# Altium integrated library Linear Technology Power Management Power Control.IntLib: 661 symbols (part 28 of 43)
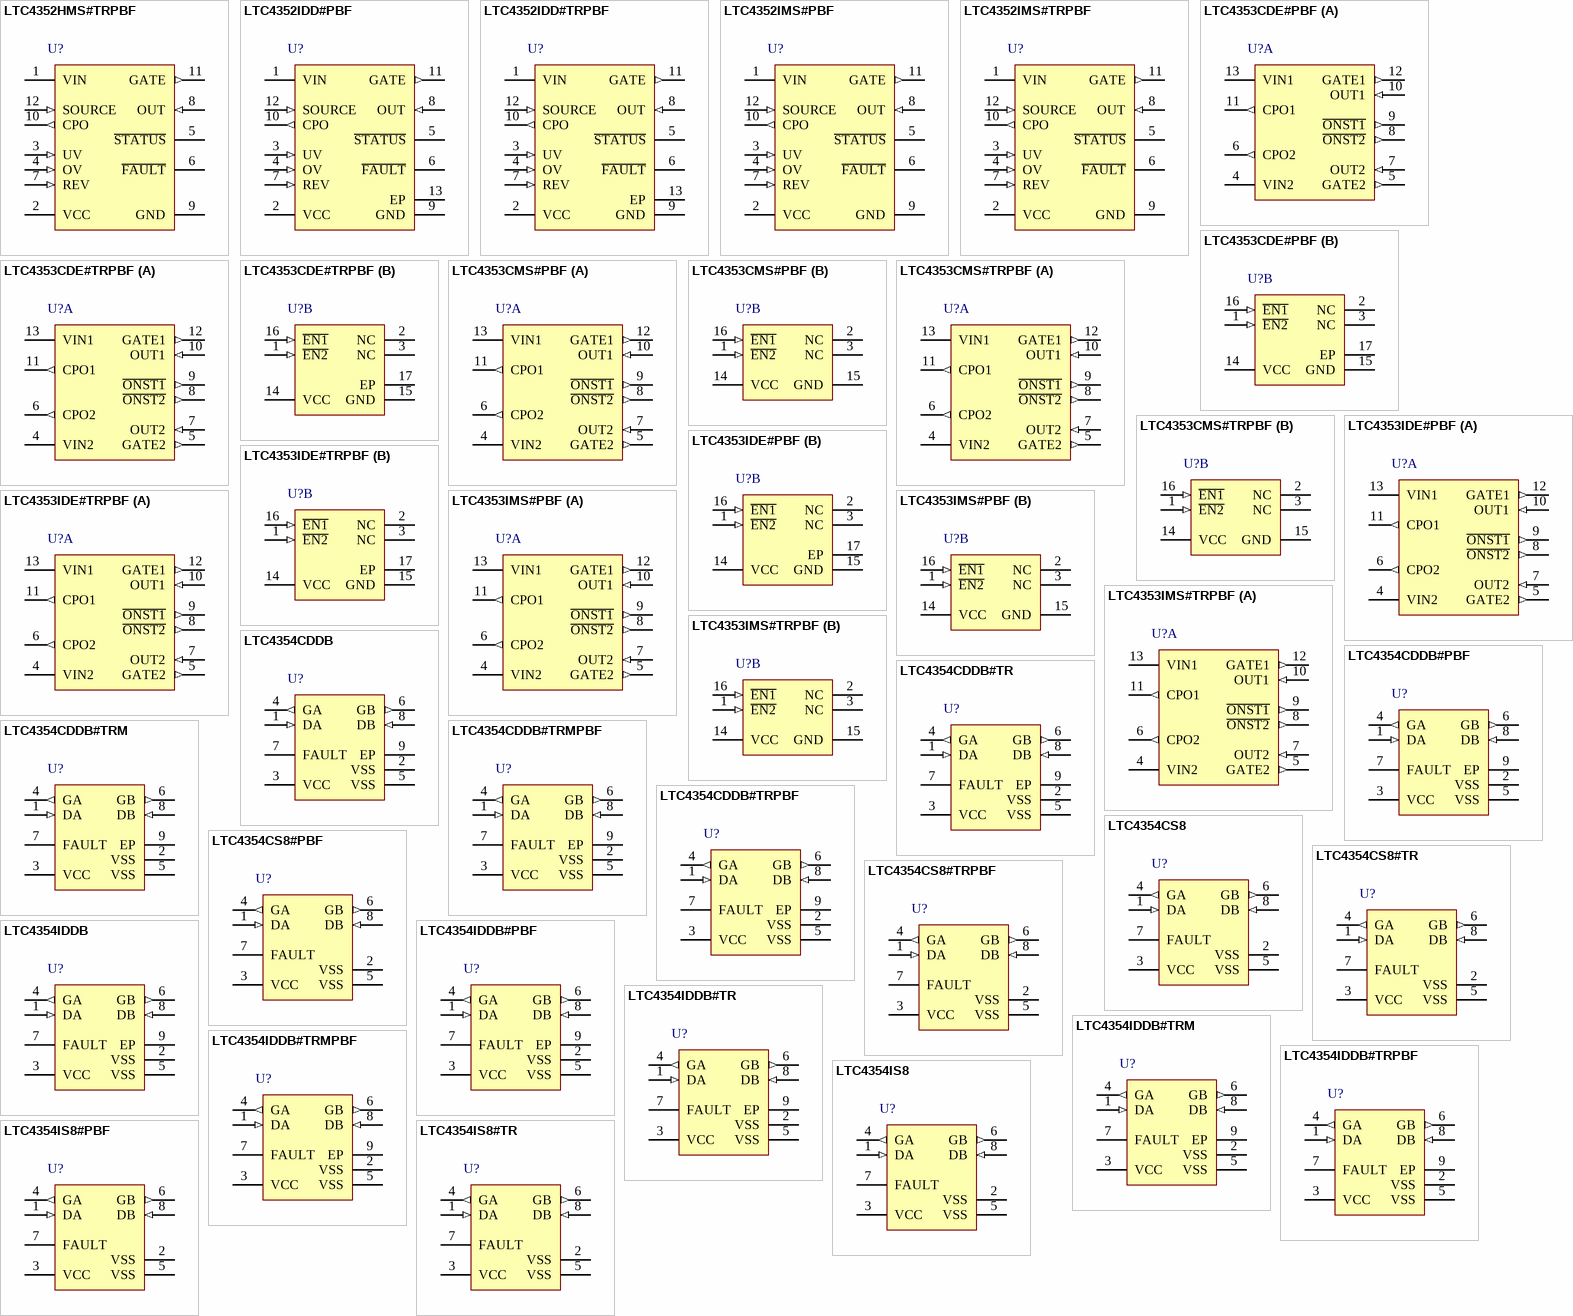
[diagram p46: symbols LTC4352HMS#TRPBF to LTC4354IS8#TR]

## LTC4352IMS#PBF
designator U?
Low Voltage Ideal Diode Controller with Monitoring, 18 V Vin MAX, 12-pin SOP (MS-12), -40 to 85 degC, Pb-Free; Manufacturer: Linear Technology; PartNumber: LTC4352IMS#PBF; Ideal Diode: Single, External, N-Channel; DatasheetVersion: Rev. A; PackageVersion: Rev. A, 05/2013; PackageReference: MS-12; PackageDescription: 12-Pin Plastic MSOP, Body 4.039 x 3 mm, Pitch 0.65 mm; Supplier 1: Digi-Key; Supplier Part Number 1: LTC4352IMS#PBF-ND; Supplier 2: Farnell; Supplier Part Number 2: 1647760; Supplier 3: Newark; Supplier Part Number 3: 02P7612; RoHS: TRUE; Mounting Technology: Surface Mount; ComponentLink1Description: Manufacturer URL; ComponentLink1URL: http://www.linear.com/; ComponentLink2Description: Datasheet; ComponentLink2URL: http://cds.linear.com/docs/en/datasheet/4352fa.pdf; ComponentLink3Description: Package Specification; ComponentLink3URL: http://cds.linear.com/docs/en/packaging/05081668_A_MS12.pdf
footprint LT-MS-12_N (SOP, 12-Leads, Body 4.1x3.1mm, Pitch 0.65mm, IPC Medium Density)
footprint LT-MS-12_L (SOP, 12-Leads, Body 4.1x3.1mm, Pitch 0.65mm, IPC High Density)
footprint LT-MS-12_M (SOP, 12-Leads, Body 4.1x3.1mm, Pitch 0.65mm, IPC Low Density)
pins: 1 VIN (power) "Voltage Sense and Supply Input. Connect this pin to the power input side of the MOSFET. The low voltage supply VCC is generated from VIN. The voltage sensed at this pin is used to control the MOSFET gate.", 2 VCC (power) "Low Voltage Supply. Connect a 0.1uF capacitor from this pin to ground. When VIN >= 2.9V, this pin provides decoupling for an internal regulator that generates a 4.1V supply. For applications where VIN < 2.9V, connect an (See Datasheet)", 3 UV (in) "Undervoltage Comparator Input. Connect this pin to an external resistive divider from VIN. If the voltage at this pin falls below 0.5V, an undervoltage fault is detected and the MOSFET is turned off. The comparator has a (See Datasheet)", 4 OV (in) "Overvoltage Comparator Input. Connect this pin to an external resistive divider from VIN. If the voltage at this pin rises above 0.5V, an overvoltage fault is detected and the MOSFET is turned off. The comparator has a (See Datasheet)", 5 ~{STATUS} (oc) "MOSFET Status Output. This pin is pulled low by an open-drain output when the external MOSFET is on. An internal 10uA current source pulls this pin up to a diode below VCC. It may be pulled above VCC using an external (See Datasheet)", 6 ~{FAULT} (oc) "Fault Output. This pin is pulled low by an open-drain output when a fault occurs. This fault could either be an undervoltage fault, an overvoltage fault, or an open MOSFET fault. The external MOSFET is turned off for (See Datasheet)", 7 REV (in) "Reverse Current Enable Input. Connect this pin to GND for normal diode operation that blocks reverse current. Driving this pin above 1V fully turns on the MOSFET gate to allow reverse current. An internal 10uA current source (See Datasheet)", 8 OUT (in) "Output Voltage Sense Input. Connect this pin to the output side of the MOSFET. The voltage sensed at this pin is used to control the MOSFET gate.", 9 GND (power) "Device Ground.", 10 CPO (out) "Charge Pump Output. Connect a capacitor from this pin to the SOURCE pin. The value of this capacitor is approximately 10x the gate capacitance (CISS) of the MOSFET switch. The charge stored on this capacitor is used to (See Datasheet)", 11 GATE (out) "MOSFET Gate Drive Output. Connect this pin to the gate of the external N-channel MOSFET switch. An internal clamp limits the gate voltage to 6.1V above, and a diode below SOURCE. During fast turn-on a 1.5A pull-up charges (See Datasheet)", 12 SOURCE (in) "MOSFET Gate Drive Return. Connect this pin to the source of the external N-channel MOSFET switch."

## LTC4352IMS#TRPBF
designator U?
Low Voltage Ideal Diode Controller with Monitoring, 18 V Vin MAX, 12-pin SOP (MS-12), -40 to 85 degC, Pb-Free, Tape and Reel; Manufacturer: Linear Technology; PartNumber: LTC4352IMS#TRPBF; Ideal Diode: Single, External, N-Channel; DatasheetVersion: Rev. A; PackageVersion: Rev. A, 05/2013; PackageReference: MS-12; PackageDescription: 12-Pin Plastic MSOP, Body 4.039 x 3 mm, Pitch 0.65 mm; Supplier 1: Digi-Key; Supplier Part Number 1: LTC4352IMS#TRPBF-ND; Supplier 2: Newark; Supplier Part Number 2: 02P7613; Packing: Tape and Reel; RoHS: TRUE; Mounting Technology: Surface Mount; ComponentLink1Description: Manufacturer URL; ComponentLink1URL: http://www.linear.com/; ComponentLink2Description: Datasheet; ComponentLink2URL: http://cds.linear.com/docs/en/datasheet/4352fa.pdf; ComponentLink3Description: Package Specification; ComponentLink3URL: http://cds.linear.com/docs/en/packaging/05081668_A_MS12.pdf
footprint LT-MS-12_N (SOP, 12-Leads, Body 4.1x3.1mm, Pitch 0.65mm, IPC Medium Density)
footprint LT-MS-12_L (SOP, 12-Leads, Body 4.1x3.1mm, Pitch 0.65mm, IPC High Density)
footprint LT-MS-12_M (SOP, 12-Leads, Body 4.1x3.1mm, Pitch 0.65mm, IPC Low Density)
pins: 1 VIN (power) "Voltage Sense and Supply Input. Connect this pin to the power input side of the MOSFET. The low voltage supply VCC is generated from VIN. The voltage sensed at this pin is used to control the MOSFET gate.", 2 VCC (power) "Low Voltage Supply. Connect a 0.1uF capacitor from this pin to ground. When VIN >= 2.9V, this pin provides decoupling for an internal regulator that generates a 4.1V supply. For applications where VIN < 2.9V, connect an (See Datasheet)", 3 UV (in) "Undervoltage Comparator Input. Connect this pin to an external resistive divider from VIN. If the voltage at this pin falls below 0.5V, an undervoltage fault is detected and the MOSFET is turned off. The comparator has a (See Datasheet)", 4 OV (in) "Overvoltage Comparator Input. Connect this pin to an external resistive divider from VIN. If the voltage at this pin rises above 0.5V, an overvoltage fault is detected and the MOSFET is turned off. The comparator has a (See Datasheet)", 5 ~{STATUS} (oc) "MOSFET Status Output. This pin is pulled low by an open-drain output when the external MOSFET is on. An internal 10uA current source pulls this pin up to a diode below VCC. It may be pulled above VCC using an external (See Datasheet)", 6 ~{FAULT} (oc) "Fault Output. This pin is pulled low by an open-drain output when a fault occurs. This fault could either be an undervoltage fault, an overvoltage fault, or an open MOSFET fault. The external MOSFET is turned off for (See Datasheet)", 7 REV (in) "Reverse Current Enable Input. Connect this pin to GND for normal diode operation that blocks reverse current. Driving this pin above 1V fully turns on the MOSFET gate to allow reverse current. An internal 10uA current source (See Datasheet)", 8 OUT (in) "Output Voltage Sense Input. Connect this pin to the output side of the MOSFET. The voltage sensed at this pin is used to control the MOSFET gate.", 9 GND (power) "Device Ground.", 10 CPO (out) "Charge Pump Output. Connect a capacitor from this pin to the SOURCE pin. The value of this capacitor is approximately 10x the gate capacitance (CISS) of the MOSFET switch. The charge stored on this capacitor is used to (See Datasheet)", 11 GATE (out) "MOSFET Gate Drive Output. Connect this pin to the gate of the external N-channel MOSFET switch. An internal clamp limits the gate voltage to 6.1V above, and a diode below SOURCE. During fast turn-on a 1.5A pull-up charges (See Datasheet)", 12 SOURCE (in) "MOSFET Gate Drive Return. Connect this pin to the source of the external N-channel MOSFET switch."

## LTC4353CDE#PBF
designator U?
Dual Low Voltage Ideal Diode Controller, 18 V Vin MAX, 16-pin SON (DE-16), 0 to 70 degC, Pb-Free; Manufacturer: Linear Technology; PartNumber: LTC4353CDE#PBF; Ideal Diode: Dual, External, N-Channel; PackageVersion: Rev. Ø, 06/2010; PackageReference: DE-16; PackageDescription: 16-Pin Plastic DFN, Body 4 x 3 mm, Pitch 0.45 mm; Supplier 1: Digi-Key; Supplier Part Number 1: LTC4353CDE#PBF-ND; Supplier 2: Farnell; Supplier Part Number 2: 2115909; Supplier 3: Newark; Supplier Part Number 3: 05W4612; RoHS: TRUE; Mounting Technology: Surface Mount; Code_JEDEC: MO-229; ComponentLink1Description: Manufacturer URL; ComponentLink1URL: http://www.linear.com/; ComponentLink2Description: Datasheet; ComponentLink2URL: http://cds.linear.com/docs/en/datasheet/4353f.pdf; ComponentLink3Description: Package Specification; ComponentLink3URL: http://cds.linear.com/docs/en/packaging/DFN_16_05-08-1732.pdf
footprint LT-DE-16_V (SON, 16-Leads, Body 4x3mm, Pitch 0.45mm, Thermal Pad 3.3x1.7mm)
part A pins: 4 VIN2 (power) "Voltage Sense and Supply Input. Connect this pin to the supply side of the MOSFET. The low voltage supply VCC is generated from the higher of VIN1 and VIN2. The voltage sensed at this pin is used to control the MOSFET gate.", 5 GATE2 (out) "MOSFET Gate Drive Output. Connect this pin to the gate of the external N-channel MOSFET switch. An internal clamp limits the gate voltage to 12V above, and a diode below the input supply. During fast turn-on, a 1.4A pull-up (See Datasheet)", 6 CPO2 (out) "Charge Pump Output. Connect a capacitor from this pin to the corresponding VIN pin. The value of this capacitor should be approximately 10x the gate capacitance (CISS) of the MOSFET switch. The charge stored on this (See Datasheet)", 7 OUT2 (in) "Output Voltage Sense Input. Connect this pin to the load side of the MOSFET. The voltage sensed at this pin is used to control the MOSFET gate.", 8 ~{ONST2} (out) "MOSFET Status Output. This pin is pulled low by an internal switch when GATE is more than 0.7V above VIN to indicate an on MOSFET. An internal 500k resistor pulls this pin up to a diode below VCC. It may be pulled above VCC (See Datasheet)", 9 ~{ONST1} (out) "MOSFET Status Output. This pin is pulled low by an internal switch when GATE is more than 0.7V above VIN to indicate an on MOSFET. An internal 500k resistor pulls this pin up to a diode below VCC. It may be pulled above VCC (See Datasheet)", 10 OUT1 (in) "Output Voltage Sense Input. Connect this pin to the load side of the MOSFET. The voltage sensed at this pin is used to control the MOSFET gate.", 11 CPO1 (out) "Charge Pump Output. Connect a capacitor from this pin to the corresponding VIN pin. The value of this capacitor should be approximately 10x the gate capacitance (CISS) of the MOSFET switch. The charge stored on this (See Datasheet)", 12 GATE1 (out) "MOSFET Gate Drive Output. Connect this pin to the gate of the external N-channel MOSFET switch. An internal clamp limits the gate voltage to 12V above, and a diode below the input supply. During fast turn-on, a 1.4A pull-up (See Datasheet)", 13 VIN1 (power) "Voltage Sense and Supply Input. Connect this pin to the supply side of the MOSFET. The low voltage supply VCC is generated from the higher of VIN1 and VIN2. The voltage sensed at this pin is used to control the MOSFET gate."
part B pins: 1 ~{EN2} (in) "Enable Input. Keep this pin below 0.6V to enable diode control on the corresponding supply. Driving this pin high shuts off the MOSFET gate (current can still flow through its body diode). The comparator has a built-in (See Datasheet)", 2 NC, 3 NC, 14 VCC (power) "Low Voltage Supply. Connect a 0.1uF capacitor from this pin to ground. For VIN >= 2.9V, this pin provides decoupling for an internal regulator that generates a 5V supply. For applications where both VIN < 2.9V, also connect (See Datasheet)", 15 GND (power) "Device Ground.", 16 ~{EN1} (in) "Enable Input. Keep this pin below 0.6V to enable diode control on the corresponding supply. Driving this pin high shuts off the MOSFET gate (current can still flow through its body diode). The comparator has a built-in (See Datasheet)", 17 EP (power) "This pin may be left open or connected to device ground."

## LTC4353CDE#TRPBF
designator U?
Dual Low Voltage Ideal Diode Controller, 18 V Vin MAX, 16-pin SON (DE-16), 0 to 70 degC, Pb-Free, Tape and Reel; Manufacturer: Linear Technology; PartNumber: LTC4353CDE#TRPBF; Ideal Diode: Dual, External, N-Channel; PackageVersion: Rev. Ø, 06/2010; PackageReference: DE-16; PackageDescription: 16-Pin Plastic DFN, Body 4 x 3 mm, Pitch 0.45 mm; Packing: Tape and Reel; RoHS: TRUE; Mounting Technology: Surface Mount; Code_JEDEC: MO-229; ComponentLink1Description: Manufacturer URL; ComponentLink1URL: http://www.linear.com/; ComponentLink2Description: Datasheet; ComponentLink2URL: http://cds.linear.com/docs/en/datasheet/4353f.pdf; ComponentLink3Description: Package Specification; ComponentLink3URL: http://cds.linear.com/docs/en/packaging/DFN_16_05-08-1732.pdf
footprint LT-DE-16_V (SON, 16-Leads, Body 4x3mm, Pitch 0.45mm, Thermal Pad 3.3x1.7mm)
part A pins: 4 VIN2 (power) "Voltage Sense and Supply Input. Connect this pin to the supply side of the MOSFET. The low voltage supply VCC is generated from the higher of VIN1 and VIN2. The voltage sensed at this pin is used to control the MOSFET gate.", 5 GATE2 (out) "MOSFET Gate Drive Output. Connect this pin to the gate of the external N-channel MOSFET switch. An internal clamp limits the gate voltage to 12V above, and a diode below the input supply. During fast turn-on, a 1.4A pull-up (See Datasheet)", 6 CPO2 (out) "Charge Pump Output. Connect a capacitor from this pin to the corresponding VIN pin. The value of this capacitor should be approximately 10x the gate capacitance (CISS) of the MOSFET switch. The charge stored on this (See Datasheet)", 7 OUT2 (in) "Output Voltage Sense Input. Connect this pin to the load side of the MOSFET. The voltage sensed at this pin is used to control the MOSFET gate.", 8 ~{ONST2} (out) "MOSFET Status Output. This pin is pulled low by an internal switch when GATE is more than 0.7V above VIN to indicate an on MOSFET. An internal 500k resistor pulls this pin up to a diode below VCC. It may be pulled above VCC (See Datasheet)", 9 ~{ONST1} (out) "MOSFET Status Output. This pin is pulled low by an internal switch when GATE is more than 0.7V above VIN to indicate an on MOSFET. An internal 500k resistor pulls this pin up to a diode below VCC. It may be pulled above VCC (See Datasheet)", 10 OUT1 (in) "Output Voltage Sense Input. Connect this pin to the load side of the MOSFET. The voltage sensed at this pin is used to control the MOSFET gate.", 11 CPO1 (out) "Charge Pump Output. Connect a capacitor from this pin to the corresponding VIN pin. The value of this capacitor should be approximately 10x the gate capacitance (CISS) of the MOSFET switch. The charge stored on this (See Datasheet)", 12 GATE1 (out) "MOSFET Gate Drive Output. Connect this pin to the gate of the external N-channel MOSFET switch. An internal clamp limits the gate voltage to 12V above, and a diode below the input supply. During fast turn-on, a 1.4A pull-up (See Datasheet)", 13 VIN1 (power) "Voltage Sense and Supply Input. Connect this pin to the supply side of the MOSFET. The low voltage supply VCC is generated from the higher of VIN1 and VIN2. The voltage sensed at this pin is used to control the MOSFET gate."
part B pins: 1 ~{EN2} (in) "Enable Input. Keep this pin below 0.6V to enable diode control on the corresponding supply. Driving this pin high shuts off the MOSFET gate (current can still flow through its body diode). The comparator has a built-in (See Datasheet)", 2 NC, 3 NC, 14 VCC (power) "Low Voltage Supply. Connect a 0.1uF capacitor from this pin to ground. For VIN >= 2.9V, this pin provides decoupling for an internal regulator that generates a 5V supply. For applications where both VIN < 2.9V, also connect (See Datasheet)", 15 GND (power) "Device Ground.", 16 ~{EN1} (in) "Enable Input. Keep this pin below 0.6V to enable diode control on the corresponding supply. Driving this pin high shuts off the MOSFET gate (current can still flow through its body diode). The comparator has a built-in (See Datasheet)", 17 EP (power) "This pin may be left open or connected to device ground."

## LTC4353CMS#PBF
designator U?
Dual Low Voltage Ideal Diode Controller, 18 V Vin MAX, 16-pin SOP (MS-16), 0 to 70 degC, Pb-Free; Manufacturer: Linear Technology; PartNumber: LTC4353CMS#PBF; Ideal Diode: Dual, External, N-Channel; PackageVersion: Rev. Ø, 06/2010; PackageReference: MS16; PackageDescription: 16-Pin Plastic MSOP, Body 4.04 x 3.00 mm, Pitch 0.50 mm; Supplier 1: Digi-Key; Supplier Part Number 1: LTC4353CMS#PBF-ND; Supplier 2: Farnell; Supplier Part Number 2: 2115910; Supplier 3: Newark; Supplier Part Number 3: 05W4614; RoHS: TRUE; Mounting Technology: Surface Mount; ComponentLink1Description: Manufacturer URL; ComponentLink1URL: http://www.linear.com/; ComponentLink2Description: Datasheet; ComponentLink2URL: http://cds.linear.com/docs/en/datasheet/4353f.pdf; ComponentLink3Description: Package Specification; ComponentLink3URL: http://cds.linear.com/docs/en/packaging/05081669_A_MS16.pdf
footprint LT-MS-16_N (SOP, 16-Leads, Body 4.1x3.1mm, Pitch 0.5mm, IPC Medium Density)
footprint LT-MS-16_L (SOP, 16-Leads, Body 4.1x3.1mm, Pitch 0.5mm, IPC High Density)
footprint LT-MS-16_M (SOP, 16-Leads, Body 4.1x3.1mm, Pitch 0.5mm, IPC Low Density)
part A pins: 4 VIN2 (power) "Voltage Sense and Supply Input. Connect this pin to the supply side of the MOSFET. The low voltage supply VCC is generated from the higher of VIN1 and VIN2. The voltage sensed at this pin is used to control the MOSFET gate.", 5 GATE2 (out) "MOSFET Gate Drive Output. Connect this pin to the gate of the external N-channel MOSFET switch. An internal clamp limits the gate voltage to 12V above, and a diode below the input supply. During fast turn-on, a 1.4A pull-up (See Datasheet)", 6 CPO2 (out) "Charge Pump Output. Connect a capacitor from this pin to the corresponding VIN pin. The value of this capacitor should be approximately 10x the gate capacitance (CISS) of the MOSFET switch. The charge stored on this (See Datasheet)", 7 OUT2 (in) "Output Voltage Sense Input. Connect this pin to the load side of the MOSFET. The voltage sensed at this pin is used to control the MOSFET gate.", 8 ~{ONST2} (out) "MOSFET Status Output. This pin is pulled low by an internal switch when GATE is more than 0.7V above VIN to indicate an on MOSFET. An internal 500k resistor pulls this pin up to a diode below VCC. It may be pulled above VCC (See Datasheet)", 9 ~{ONST1} (out) "MOSFET Status Output. This pin is pulled low by an internal switch when GATE is more than 0.7V above VIN to indicate an on MOSFET. An internal 500k resistor pulls this pin up to a diode below VCC. It may be pulled above VCC (See Datasheet)", 10 OUT1 (in) "Output Voltage Sense Input. Connect this pin to the load side of the MOSFET. The voltage sensed at this pin is used to control the MOSFET gate.", 11 CPO1 (out) "Charge Pump Output. Connect a capacitor from this pin to the corresponding VIN pin. The value of this capacitor should be approximately 10x the gate capacitance (CISS) of the MOSFET switch. The charge stored on this (See Datasheet)", 12 GATE1 (out) "MOSFET Gate Drive Output. Connect this pin to the gate of the external N-channel MOSFET switch. An internal clamp limits the gate voltage to 12V above, and a diode below the input supply. During fast turn-on, a 1.4A pull-up (See Datasheet)", 13 VIN1 (power) "Voltage Sense and Supply Input. Connect this pin to the supply side of the MOSFET. The low voltage supply VCC is generated from the higher of VIN1 and VIN2. The voltage sensed at this pin is used to control the MOSFET gate."
part B pins: 1 ~{EN2} (in) "Enable Input. Keep this pin below 0.6V to enable diode control on the corresponding supply. Driving this pin high shuts off the MOSFET gate (current can still flow through its body diode). The comparator has a built-in (See Datasheet)", 2 NC, 3 NC, 14 VCC (power) "Low Voltage Supply. Connect a 0.1uF capacitor from this pin to ground. For VIN >= 2.9V, this pin provides decoupling for an internal regulator that generates a 5V supply. For applications where both VIN < 2.9V, also connect (See Datasheet)", 15 GND (power) "Device Ground.", 16 ~{EN1} (in) "Enable Input. Keep this pin below 0.6V to enable diode control on the corresponding supply. Driving this pin high shuts off the MOSFET gate (current can still flow through its body diode). The comparator has a built-in (See Datasheet)"

## LTC4353CMS#TRPBF
designator U?
Dual Low Voltage Ideal Diode Controller, 18 V Vin MAX, 16-pin SOP (MS-16), 0 to 70 degC, Pb-Free, Tape and Reel; Manufacturer: Linear Technology; PartNumber: LTC4353CMS#TRPBF; Ideal Diode: Dual, External, N-Channel; PackageVersion: Rev. Ø, 06/2010; PackageReference: MS16; PackageDescription: 16-Pin Plastic MSOP, Body 4.04 x 3.00 mm, Pitch 0.50 mm; Packing: Tape and Reel; RoHS: TRUE; Mounting Technology: Surface Mount; ComponentLink1Description: Manufacturer URL; ComponentLink1URL: http://www.linear.com/; ComponentLink2Description: Datasheet; ComponentLink2URL: http://cds.linear.com/docs/en/datasheet/4353f.pdf; ComponentLink3Description: Package Specification; ComponentLink3URL: http://cds.linear.com/docs/en/packaging/05081669_A_MS16.pdf
footprint LT-MS-16_N (SOP, 16-Leads, Body 4.1x3.1mm, Pitch 0.5mm, IPC Medium Density)
footprint LT-MS-16_L (SOP, 16-Leads, Body 4.1x3.1mm, Pitch 0.5mm, IPC High Density)
footprint LT-MS-16_M (SOP, 16-Leads, Body 4.1x3.1mm, Pitch 0.5mm, IPC Low Density)
part A pins: 4 VIN2 (power) "Voltage Sense and Supply Input. Connect this pin to the supply side of the MOSFET. The low voltage supply VCC is generated from the higher of VIN1 and VIN2. The voltage sensed at this pin is used to control the MOSFET gate.", 5 GATE2 (out) "MOSFET Gate Drive Output. Connect this pin to the gate of the external N-channel MOSFET switch. An internal clamp limits the gate voltage to 12V above, and a diode below the input supply. During fast turn-on, a 1.4A pull-up (See Datasheet)", 6 CPO2 (out) "Charge Pump Output. Connect a capacitor from this pin to the corresponding VIN pin. The value of this capacitor should be approximately 10x the gate capacitance (CISS) of the MOSFET switch. The charge stored on this (See Datasheet)", 7 OUT2 (in) "Output Voltage Sense Input. Connect this pin to the load side of the MOSFET. The voltage sensed at this pin is used to control the MOSFET gate.", 8 ~{ONST2} (out) "MOSFET Status Output. This pin is pulled low by an internal switch when GATE is more than 0.7V above VIN to indicate an on MOSFET. An internal 500k resistor pulls this pin up to a diode below VCC. It may be pulled above VCC (See Datasheet)", 9 ~{ONST1} (out) "MOSFET Status Output. This pin is pulled low by an internal switch when GATE is more than 0.7V above VIN to indicate an on MOSFET. An internal 500k resistor pulls this pin up to a diode below VCC. It may be pulled above VCC (See Datasheet)", 10 OUT1 (in) "Output Voltage Sense Input. Connect this pin to the load side of the MOSFET. The voltage sensed at this pin is used to control the MOSFET gate.", 11 CPO1 (out) "Charge Pump Output. Connect a capacitor from this pin to the corresponding VIN pin. The value of this capacitor should be approximately 10x the gate capacitance (CISS) of the MOSFET switch. The charge stored on this (See Datasheet)", 12 GATE1 (out) "MOSFET Gate Drive Output. Connect this pin to the gate of the external N-channel MOSFET switch. An internal clamp limits the gate voltage to 12V above, and a diode below the input supply. During fast turn-on, a 1.4A pull-up (See Datasheet)", 13 VIN1 (power) "Voltage Sense and Supply Input. Connect this pin to the supply side of the MOSFET. The low voltage supply VCC is generated from the higher of VIN1 and VIN2. The voltage sensed at this pin is used to control the MOSFET gate."
part B pins: 1 ~{EN2} (in) "Enable Input. Keep this pin below 0.6V to enable diode control on the corresponding supply. Driving this pin high shuts off the MOSFET gate (current can still flow through its body diode). The comparator has a built-in (See Datasheet)", 2 NC, 3 NC, 14 VCC (power) "Low Voltage Supply. Connect a 0.1uF capacitor from this pin to ground. For VIN >= 2.9V, this pin provides decoupling for an internal regulator that generates a 5V supply. For applications where both VIN < 2.9V, also connect (See Datasheet)", 15 GND (power) "Device Ground.", 16 ~{EN1} (in) "Enable Input. Keep this pin below 0.6V to enable diode control on the corresponding supply. Driving this pin high shuts off the MOSFET gate (current can still flow through its body diode). The comparator has a built-in (See Datasheet)"

## LTC4353IDE#PBF
designator U?
Dual Low Voltage Ideal Diode Controller, 18 V Vin MAX, 16-pin SON (DE-16), -40 to 85 degC, Pb-Free; Manufacturer: Linear Technology; PartNumber: LTC4353IDE#PBF; Ideal Diode: Dual, External, N-Channel; PackageVersion: Rev. Ø, 06/2010; PackageReference: DE-16; PackageDescription: 16-Pin Plastic DFN, Body 4 x 3 mm, Pitch 0.45 mm; Supplier 1: Digi-Key; Supplier Part Number 1: LTC4353IDE#PBF-ND; Supplier 2: Newark; Supplier Part Number 2: 05W4616; RoHS: TRUE; Mounting Technology: Surface Mount; Code_JEDEC: MO-229; ComponentLink1Description: Manufacturer URL; ComponentLink1URL: http://www.linear.com/; ComponentLink2Description: Datasheet; ComponentLink2URL: http://cds.linear.com/docs/en/datasheet/4353f.pdf; ComponentLink3Description: Package Specification; ComponentLink3URL: http://cds.linear.com/docs/en/packaging/DFN_16_05-08-1732.pdf
footprint LT-DE-16_V (SON, 16-Leads, Body 4x3mm, Pitch 0.45mm, Thermal Pad 3.3x1.7mm)
part A pins: 4 VIN2 (power) "Voltage Sense and Supply Input. Connect this pin to the supply side of the MOSFET. The low voltage supply VCC is generated from the higher of VIN1 and VIN2. The voltage sensed at this pin is used to control the MOSFET gate.", 5 GATE2 (out) "MOSFET Gate Drive Output. Connect this pin to the gate of the external N-channel MOSFET switch. An internal clamp limits the gate voltage to 12V above, and a diode below the input supply. During fast turn-on, a 1.4A pull-up (See Datasheet)", 6 CPO2 (out) "Charge Pump Output. Connect a capacitor from this pin to the corresponding VIN pin. The value of this capacitor should be approximately 10x the gate capacitance (CISS) of the MOSFET switch. The charge stored on this (See Datasheet)", 7 OUT2 (in) "Output Voltage Sense Input. Connect this pin to the load side of the MOSFET. The voltage sensed at this pin is used to control the MOSFET gate.", 8 ~{ONST2} (out) "MOSFET Status Output. This pin is pulled low by an internal switch when GATE is more than 0.7V above VIN to indicate an on MOSFET. An internal 500k resistor pulls this pin up to a diode below VCC. It may be pulled above VCC (See Datasheet)", 9 ~{ONST1} (out) "MOSFET Status Output. This pin is pulled low by an internal switch when GATE is more than 0.7V above VIN to indicate an on MOSFET. An internal 500k resistor pulls this pin up to a diode below VCC. It may be pulled above VCC (See Datasheet)", 10 OUT1 (in) "Output Voltage Sense Input. Connect this pin to the load side of the MOSFET. The voltage sensed at this pin is used to control the MOSFET gate.", 11 CPO1 (out) "Charge Pump Output. Connect a capacitor from this pin to the corresponding VIN pin. The value of this capacitor should be approximately 10x the gate capacitance (CISS) of the MOSFET switch. The charge stored on this (See Datasheet)", 12 GATE1 (out) "MOSFET Gate Drive Output. Connect this pin to the gate of the external N-channel MOSFET switch. An internal clamp limits the gate voltage to 12V above, and a diode below the input supply. During fast turn-on, a 1.4A pull-up (See Datasheet)", 13 VIN1 (power) "Voltage Sense and Supply Input. Connect this pin to the supply side of the MOSFET. The low voltage supply VCC is generated from the higher of VIN1 and VIN2. The voltage sensed at this pin is used to control the MOSFET gate."
part B pins: 1 ~{EN2} (in) "Enable Input. Keep this pin below 0.6V to enable diode control on the corresponding supply. Driving this pin high shuts off the MOSFET gate (current can still flow through its body diode). The comparator has a built-in (See Datasheet)", 2 NC, 3 NC, 14 VCC (power) "Low Voltage Supply. Connect a 0.1uF capacitor from this pin to ground. For VIN >= 2.9V, this pin provides decoupling for an internal regulator that generates a 5V supply. For applications where both VIN < 2.9V, also connect (See Datasheet)", 15 GND (power) "Device Ground.", 16 ~{EN1} (in) "Enable Input. Keep this pin below 0.6V to enable diode control on the corresponding supply. Driving this pin high shuts off the MOSFET gate (current can still flow through its body diode). The comparator has a built-in (See Datasheet)", 17 EP (power) "This pin may be left open or connected to device ground."

## LTC4353IDE#TRPBF
designator U?
Dual Low Voltage Ideal Diode Controller, 18 V Vin MAX, 16-pin SON (DE-16), -40 to 85 degC, Pb-Free, Tape and Reel; Manufacturer: Linear Technology; PartNumber: LTC4353IDE#TRPBF; Ideal Diode: Dual, External, N-Channel; PackageVersion: Rev. Ø, 06/2010; PackageReference: DE-16; PackageDescription: 16-Pin Plastic DFN, Body 4 x 3 mm, Pitch 0.45 mm; Packing: Tape and Reel; RoHS: TRUE; Mounting Technology: Surface Mount; Code_JEDEC: MO-229; ComponentLink1Description: Manufacturer URL; ComponentLink1URL: http://www.linear.com/; ComponentLink2Description: Datasheet; ComponentLink2URL: http://cds.linear.com/docs/en/datasheet/4353f.pdf; ComponentLink3Description: Package Specification; ComponentLink3URL: http://cds.linear.com/docs/en/packaging/DFN_16_05-08-1732.pdf
footprint LT-DE-16_V (SON, 16-Leads, Body 4x3mm, Pitch 0.45mm, Thermal Pad 3.3x1.7mm)
part A pins: 4 VIN2 (power) "Voltage Sense and Supply Input. Connect this pin to the supply side of the MOSFET. The low voltage supply VCC is generated from the higher of VIN1 and VIN2. The voltage sensed at this pin is used to control the MOSFET gate.", 5 GATE2 (out) "MOSFET Gate Drive Output. Connect this pin to the gate of the external N-channel MOSFET switch. An internal clamp limits the gate voltage to 12V above, and a diode below the input supply. During fast turn-on, a 1.4A pull-up (See Datasheet)", 6 CPO2 (out) "Charge Pump Output. Connect a capacitor from this pin to the corresponding VIN pin. The value of this capacitor should be approximately 10x the gate capacitance (CISS) of the MOSFET switch. The charge stored on this (See Datasheet)", 7 OUT2 (in) "Output Voltage Sense Input. Connect this pin to the load side of the MOSFET. The voltage sensed at this pin is used to control the MOSFET gate.", 8 ~{ONST2} (out) "MOSFET Status Output. This pin is pulled low by an internal switch when GATE is more than 0.7V above VIN to indicate an on MOSFET. An internal 500k resistor pulls this pin up to a diode below VCC. It may be pulled above VCC (See Datasheet)", 9 ~{ONST1} (out) "MOSFET Status Output. This pin is pulled low by an internal switch when GATE is more than 0.7V above VIN to indicate an on MOSFET. An internal 500k resistor pulls this pin up to a diode below VCC. It may be pulled above VCC (See Datasheet)", 10 OUT1 (in) "Output Voltage Sense Input. Connect this pin to the load side of the MOSFET. The voltage sensed at this pin is used to control the MOSFET gate.", 11 CPO1 (out) "Charge Pump Output. Connect a capacitor from this pin to the corresponding VIN pin. The value of this capacitor should be approximately 10x the gate capacitance (CISS) of the MOSFET switch. The charge stored on this (See Datasheet)", 12 GATE1 (out) "MOSFET Gate Drive Output. Connect this pin to the gate of the external N-channel MOSFET switch. An internal clamp limits the gate voltage to 12V above, and a diode below the input supply. During fast turn-on, a 1.4A pull-up (See Datasheet)", 13 VIN1 (power) "Voltage Sense and Supply Input. Connect this pin to the supply side of the MOSFET. The low voltage supply VCC is generated from the higher of VIN1 and VIN2. The voltage sensed at this pin is used to control the MOSFET gate."
part B pins: 1 ~{EN2} (in) "Enable Input. Keep this pin below 0.6V to enable diode control on the corresponding supply. Driving this pin high shuts off the MOSFET gate (current can still flow through its body diode). The comparator has a built-in (See Datasheet)", 2 NC, 3 NC, 14 VCC (power) "Low Voltage Supply. Connect a 0.1uF capacitor from this pin to ground. For VIN >= 2.9V, this pin provides decoupling for an internal regulator that generates a 5V supply. For applications where both VIN < 2.9V, also connect (See Datasheet)", 15 GND (power) "Device Ground.", 16 ~{EN1} (in) "Enable Input. Keep this pin below 0.6V to enable diode control on the corresponding supply. Driving this pin high shuts off the MOSFET gate (current can still flow through its body diode). The comparator has a built-in (See Datasheet)", 17 EP (power) "This pin may be left open or connected to device ground."

## LTC4353IMS#PBF
designator U?
Dual Low Voltage Ideal Diode Controller, 18 V Vin MAX, 16-pin SOP (MS-16), -40 to 85 degC, Pb-Free; Manufacturer: Linear Technology; PartNumber: LTC4353IMS#PBF; Ideal Diode: Dual, External, N-Channel; PackageVersion: Rev. Ø, 06/2010; PackageReference: MS16; PackageDescription: 16-Pin Plastic MSOP, Body 4.04 x 3.00 mm, Pitch 0.50 mm; Supplier 1: Digi-Key; Supplier Part Number 1: LTC4353IMS#PBF-ND; Supplier 2: Newark; Supplier Part Number 2: 05W4618; RoHS: TRUE; Mounting Technology: Surface Mount; ComponentLink1Description: Manufacturer URL; ComponentLink1URL: http://www.linear.com/; ComponentLink2Description: Datasheet; ComponentLink2URL: http://cds.linear.com/docs/en/datasheet/4353f.pdf; ComponentLink3Description: Package Specification; ComponentLink3URL: http://cds.linear.com/docs/en/packaging/05081669_A_MS16.pdf
footprint LT-MS-16_N (SOP, 16-Leads, Body 4.1x3.1mm, Pitch 0.5mm, IPC Medium Density)
footprint LT-MS-16_L (SOP, 16-Leads, Body 4.1x3.1mm, Pitch 0.5mm, IPC High Density)
footprint LT-MS-16_M (SOP, 16-Leads, Body 4.1x3.1mm, Pitch 0.5mm, IPC Low Density)
part A pins: 4 VIN2 (power) "Voltage Sense and Supply Input. Connect this pin to the supply side of the MOSFET. The low voltage supply VCC is generated from the higher of VIN1 and VIN2. The voltage sensed at this pin is used to control the MOSFET gate.", 5 GATE2 (out) "MOSFET Gate Drive Output. Connect this pin to the gate of the external N-channel MOSFET switch. An internal clamp limits the gate voltage to 12V above, and a diode below the input supply. During fast turn-on, a 1.4A pull-up (See Datasheet)", 6 CPO2 (out) "Charge Pump Output. Connect a capacitor from this pin to the corresponding VIN pin. The value of this capacitor should be approximately 10x the gate capacitance (CISS) of the MOSFET switch. The charge stored on this (See Datasheet)", 7 OUT2 (in) "Output Voltage Sense Input. Connect this pin to the load side of the MOSFET. The voltage sensed at this pin is used to control the MOSFET gate.", 8 ~{ONST2} (out) "MOSFET Status Output. This pin is pulled low by an internal switch when GATE is more than 0.7V above VIN to indicate an on MOSFET. An internal 500k resistor pulls this pin up to a diode below VCC. It may be pulled above VCC (See Datasheet)", 9 ~{ONST1} (out) "MOSFET Status Output. This pin is pulled low by an internal switch when GATE is more than 0.7V above VIN to indicate an on MOSFET. An internal 500k resistor pulls this pin up to a diode below VCC. It may be pulled above VCC (See Datasheet)", 10 OUT1 (in) "Output Voltage Sense Input. Connect this pin to the load side of the MOSFET. The voltage sensed at this pin is used to control the MOSFET gate.", 11 CPO1 (out) "Charge Pump Output. Connect a capacitor from this pin to the corresponding VIN pin. The value of this capacitor should be approximately 10x the gate capacitance (CISS) of the MOSFET switch. The charge stored on this (See Datasheet)", 12 GATE1 (out) "MOSFET Gate Drive Output. Connect this pin to the gate of the external N-channel MOSFET switch. An internal clamp limits the gate voltage to 12V above, and a diode below the input supply. During fast turn-on, a 1.4A pull-up (See Datasheet)", 13 VIN1 (power) "Voltage Sense and Supply Input. Connect this pin to the supply side of the MOSFET. The low voltage supply VCC is generated from the higher of VIN1 and VIN2. The voltage sensed at this pin is used to control the MOSFET gate."
part B pins: 1 ~{EN2} (in) "Enable Input. Keep this pin below 0.6V to enable diode control on the corresponding supply. Driving this pin high shuts off the MOSFET gate (current can still flow through its body diode). The comparator has a built-in (See Datasheet)", 2 NC, 3 NC, 14 VCC (power) "Low Voltage Supply. Connect a 0.1uF capacitor from this pin to ground. For VIN >= 2.9V, this pin provides decoupling for an internal regulator that generates a 5V supply. For applications where both VIN < 2.9V, also connect (See Datasheet)", 15 GND (power) "Device Ground.", 16 ~{EN1} (in) "Enable Input. Keep this pin below 0.6V to enable diode control on the corresponding supply. Driving this pin high shuts off the MOSFET gate (current can still flow through its body diode). The comparator has a built-in (See Datasheet)"

## LTC4353IMS#TRPBF
designator U?
Dual Low Voltage Ideal Diode Controller, 18 V Vin MAX, 16-pin SOP (MS-16), -40 to 85 degC, Pb-Free, Tape and Reel; Manufacturer: Linear Technology; PartNumber: LTC4353IMS#TRPBF; Ideal Diode: Dual, External, N-Channel; PackageVersion: Rev. Ø, 06/2010; PackageReference: MS16; PackageDescription: 16-Pin Plastic MSOP, Body 4.04 x 3.00 mm, Pitch 0.50 mm; Supplier 1: Newark; Supplier Part Number 1: 05W4619; Packing: Tape and Reel; RoHS: TRUE; Mounting Technology: Surface Mount; ComponentLink1Description: Manufacturer URL; ComponentLink1URL: http://www.linear.com/; ComponentLink2Description: Datasheet; ComponentLink2URL: http://cds.linear.com/docs/en/datasheet/4353f.pdf; ComponentLink3Description: Package Specification; ComponentLink3URL: http://cds.linear.com/docs/en/packaging/05081669_A_MS16.pdf
footprint LT-MS-16_N (SOP, 16-Leads, Body 4.1x3.1mm, Pitch 0.5mm, IPC Medium Density)
footprint LT-MS-16_L (SOP, 16-Leads, Body 4.1x3.1mm, Pitch 0.5mm, IPC High Density)
footprint LT-MS-16_M (SOP, 16-Leads, Body 4.1x3.1mm, Pitch 0.5mm, IPC Low Density)
part A pins: 4 VIN2 (power) "Voltage Sense and Supply Input. Connect this pin to the supply side of the MOSFET. The low voltage supply VCC is generated from the higher of VIN1 and VIN2. The voltage sensed at this pin is used to control the MOSFET gate.", 5 GATE2 (out) "MOSFET Gate Drive Output. Connect this pin to the gate of the external N-channel MOSFET switch. An internal clamp limits the gate voltage to 12V above, and a diode below the input supply. During fast turn-on, a 1.4A pull-up (See Datasheet)", 6 CPO2 (out) "Charge Pump Output. Connect a capacitor from this pin to the corresponding VIN pin. The value of this capacitor should be approximately 10x the gate capacitance (CISS) of the MOSFET switch. The charge stored on this (See Datasheet)", 7 OUT2 (in) "Output Voltage Sense Input. Connect this pin to the load side of the MOSFET. The voltage sensed at this pin is used to control the MOSFET gate.", 8 ~{ONST2} (out) "MOSFET Status Output. This pin is pulled low by an internal switch when GATE is more than 0.7V above VIN to indicate an on MOSFET. An internal 500k resistor pulls this pin up to a diode below VCC. It may be pulled above VCC (See Datasheet)", 9 ~{ONST1} (out) "MOSFET Status Output. This pin is pulled low by an internal switch when GATE is more than 0.7V above VIN to indicate an on MOSFET. An internal 500k resistor pulls this pin up to a diode below VCC. It may be pulled above VCC (See Datasheet)", 10 OUT1 (in) "Output Voltage Sense Input. Connect this pin to the load side of the MOSFET. The voltage sensed at this pin is used to control the MOSFET gate.", 11 CPO1 (out) "Charge Pump Output. Connect a capacitor from this pin to the corresponding VIN pin. The value of this capacitor should be approximately 10x the gate capacitance (CISS) of the MOSFET switch. The charge stored on this (See Datasheet)", 12 GATE1 (out) "MOSFET Gate Drive Output. Connect this pin to the gate of the external N-channel MOSFET switch. An internal clamp limits the gate voltage to 12V above, and a diode below the input supply. During fast turn-on, a 1.4A pull-up (See Datasheet)", 13 VIN1 (power) "Voltage Sense and Supply Input. Connect this pin to the supply side of the MOSFET. The low voltage supply VCC is generated from the higher of VIN1 and VIN2. The voltage sensed at this pin is used to control the MOSFET gate."
part B pins: 1 ~{EN2} (in) "Enable Input. Keep this pin below 0.6V to enable diode control on the corresponding supply. Driving this pin high shuts off the MOSFET gate (current can still flow through its body diode). The comparator has a built-in (See Datasheet)", 2 NC, 3 NC, 14 VCC (power) "Low Voltage Supply. Connect a 0.1uF capacitor from this pin to ground. For VIN >= 2.9V, this pin provides decoupling for an internal regulator that generates a 5V supply. For applications where both VIN < 2.9V, also connect (See Datasheet)", 15 GND (power) "Device Ground.", 16 ~{EN1} (in) "Enable Input. Keep this pin below 0.6V to enable diode control on the corresponding supply. Driving this pin high shuts off the MOSFET gate (current can still flow through its body diode). The comparator has a built-in (See Datasheet)"

## LTC4354CDDB
designator U?
Dual Channel, 1 us Turn-off Time, -12 to -80 V Vin, 8-pin SON (DDB-8), 0 to 70 degC; Manufacturer: Linear Technology; PartNumber: LTC4354CDDB; Ideal Diode: Dual, External, N-Channel; DatasheetVersion: Rev. C; PackageVersion: Rev. B, 06/2010; PackageReference: DDB-8; PackageDescription: 8-Pin Plastic DFN, Body 3 x 2 mm, Pitch 0.5 mm; RoHS: FALSE; Mounting Technology: Surface Mount; Code_JEDEC: MO-229; ComponentLink1Description: Manufacturer URL; ComponentLink1URL: http://www.linear.com/; ComponentLink2Description: Datasheet; ComponentLink2URL: http://cds.linear.com/docs/en/datasheet/4354fc.pdf; ComponentLink3Description: Package Specification; ComponentLink3URL: http://cds.linear.com/docs/en/packaging/DFN_8_05-08-1702.pdf
footprint LT-DDB-8_V (SON, 8-Leads, Body 3x2mm, Pitch 0.5mm, Thermal Pad 2.2x0.61mm)
pins: 1 DA (in) "Drain Voltage Sense Inputs. These pins sense source drain voltage drop across the N-channel MOSFETs. An external resistor is recommended to protect these pins from transient voltages exceeding 80V in extreme fault conditions.(See Datasheet)", 2 VSS (power) "Negative Supply Voltage Input. This is the device negative supply input and connects to the common source connection of the N-channel MOSFETs. It also connects to the source voltage sense input of the servo amplifiers. For (See Datasheet)", 3 VCC (power) "Positive Supply Voltage Input. Connect this pin to the positive side of the supply through a resistor. An internal shunt regulator that can sink up to 20mA typically clamps VCC at 11V. Bypass this pin with a 1uF capacitor to (See Datasheet)", 4 GA (out) "Gate Drive Outputs. Gate pins pull high to 10V minimum, fully enhancing the N-channel MOSFET, when the load current creates more than 30mV of drop across the MOSFET. When the load current is small, the gates are actively (See Datasheet)", 5 VSS (power) "Negative Supply Voltage Input. This is the device negative supply input and connects to the common source connection of the N-channel MOSFETs. It also connects to the source voltage sense input of the servo amplifiers. For (See Datasheet)", 6 GB (out) "Gate Drive Outputs. Gate pins pull high to 10V minimum, fully enhancing the N-channel MOSFET, when the load current creates more than 30mV of drop across the MOSFET. When the load current is small, the gates are actively (See Datasheet)", 7 FAULT (hiz) "Fault Output. Open-drain output that normally pulls the FAULT pin to VSS and shunts current to turn off an external LED or opto-coupler. In the fault condition, where the pass transistor is fully on and the voltage drop (See Datasheet)", 8 DB (in) "Drain Voltage Sense Inputs. These pins sense source drain voltage drop across the N-channel MOSFETs. An external resistor is recommended to protect these pins from transient voltages exceeding 80V in extreme fault conditions.(See Datasheet)", 9 EP (power) "Exposed pad is common to VSS and may be left open or connected to Pins 2 and 5."

## LTC4354CDDB#PBF
designator U?
Dual Channel, 1 us Turn-off Time, -12 to -80 V Vin, 8-pin SON (DDB-8), 0 to 70 degC, Pb-Free; Manufacturer: Linear Technology; PartNumber: LTC4354CDDB#PBF; Ideal Diode: Dual, External, N-Channel; DatasheetVersion: Rev. C; PackageVersion: Rev. B, 06/2010; PackageReference: DDB-8; PackageDescription: 8-Pin Plastic DFN, Body 3 x 2 mm, Pitch 0.5 mm; Supplier 1: Newark; Supplier Part Number 1: 26R2282; RoHS: TRUE; Mounting Technology: Surface Mount; Code_JEDEC: MO-229; ComponentLink1Description: Manufacturer URL; ComponentLink1URL: http://www.linear.com/; ComponentLink2Description: Datasheet; ComponentLink2URL: http://cds.linear.com/docs/en/datasheet/4354fc.pdf; ComponentLink3Description: Package Specification; ComponentLink3URL: http://cds.linear.com/docs/en/packaging/DFN_8_05-08-1702.pdf
footprint LT-DDB-8_V (SON, 8-Leads, Body 3x2mm, Pitch 0.5mm, Thermal Pad 2.2x0.61mm)
pins: 1 DA (in) "Drain Voltage Sense Inputs. These pins sense source drain voltage drop across the N-channel MOSFETs. An external resistor is recommended to protect these pins from transient voltages exceeding 80V in extreme fault conditions.(See Datasheet)", 2 VSS (power) "Negative Supply Voltage Input. This is the device negative supply input and connects to the common source connection of the N-channel MOSFETs. It also connects to the source voltage sense input of the servo amplifiers. For (See Datasheet)", 3 VCC (power) "Positive Supply Voltage Input. Connect this pin to the positive side of the supply through a resistor. An internal shunt regulator that can sink up to 20mA typically clamps VCC at 11V. Bypass this pin with a 1uF capacitor to (See Datasheet)", 4 GA (out) "Gate Drive Outputs. Gate pins pull high to 10V minimum, fully enhancing the N-channel MOSFET, when the load current creates more than 30mV of drop across the MOSFET. When the load current is small, the gates are actively (See Datasheet)", 5 VSS (power) "Negative Supply Voltage Input. This is the device negative supply input and connects to the common source connection of the N-channel MOSFETs. It also connects to the source voltage sense input of the servo amplifiers. For (See Datasheet)", 6 GB (out) "Gate Drive Outputs. Gate pins pull high to 10V minimum, fully enhancing the N-channel MOSFET, when the load current creates more than 30mV of drop across the MOSFET. When the load current is small, the gates are actively (See Datasheet)", 7 FAULT (hiz) "Fault Output. Open-drain output that normally pulls the FAULT pin to VSS and shunts current to turn off an external LED or opto-coupler. In the fault condition, where the pass transistor is fully on and the voltage drop (See Datasheet)", 8 DB (in) "Drain Voltage Sense Inputs. These pins sense source drain voltage drop across the N-channel MOSFETs. An external resistor is recommended to protect these pins from transient voltages exceeding 80V in extreme fault conditions.(See Datasheet)", 9 EP (power) "Exposed pad is common to VSS and may be left open or connected to Pins 2 and 5."